# EAGLE library part 3PDT (library parts)
3PDT slide switch, CW Industries, GF-161-0005
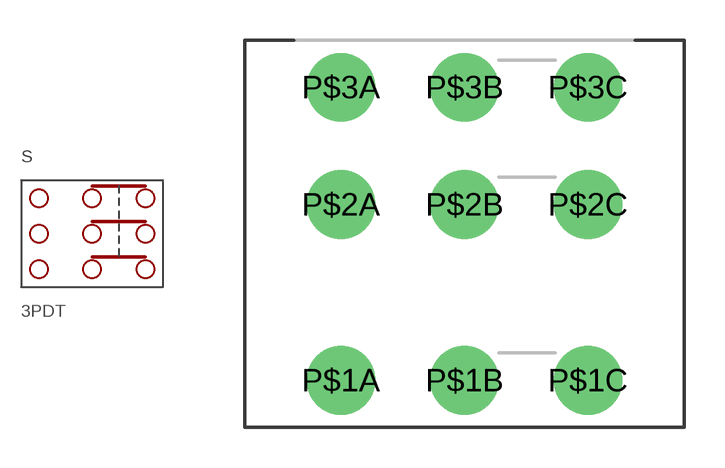
[diagram p1: symbol with the pads of 3PDT; footprint 3PDT]

Designator prefix S

## 3PDT  [3PDT]
P$1A  P$1A
P$1B  P$1B
P$1C  P$1C
P$2A  P$2A
P$2B  P$2B
P$2C  P$2C
P$3A  P$3A
P$3B  P$3B
P$3C  P$3C

## Footprint 3PDT (pad centres in mm)
drill 1.702: P$1A -4.597,-5.461; P$1B 0,-5.461; P$1C 4.597,-5.461; P$2A -4.597,1.092; P$2B 0,1.092; P$2C 4.597,1.092; P$3A -4.597,5.461; P$3B 0,5.461; P$3C 4.597,5.461